# EAGLE library part BQ51013B-20VQFN (library BB8)
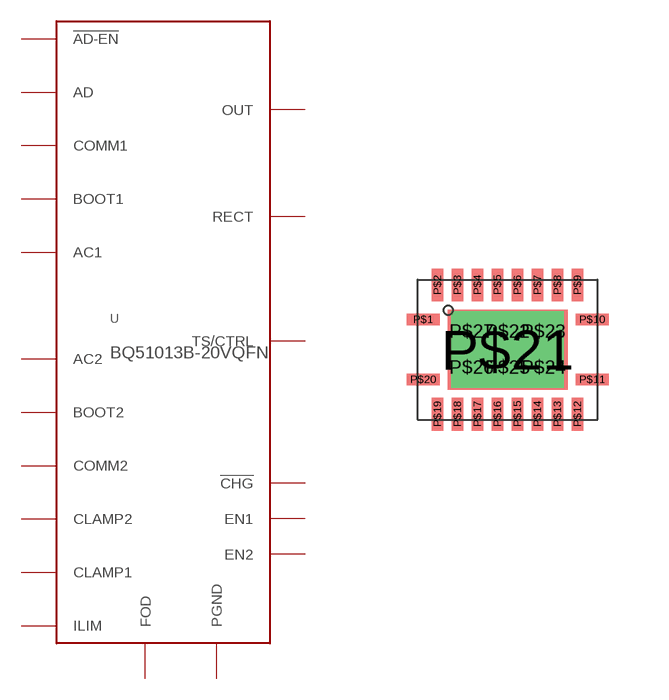
[diagram p9: symbol with the pads of 20-VQFN; footprint 20-VQFN]

Designator prefix U

## BQ51013B-20VQFN  [20-VQFN]
P$1  PGND
P$2  AC1
P$3  BOOT1
P$4  OUT
P$5  CLAMP1
P$6  COMM1
P$7  !CHG
P$8  !AD-EN
P$9  AD
P$10  EN1
P$11  EN2
P$12  ILIM
P$13  TS/CTRL
P$14  FOD
P$15  COMM2
P$16  CLAMP2
P$17  BOOT2
P$18  RECT
P$19  AC2
P$20  PGND
P$21  PGND
P$22  PGND
P$23  PGND
P$24  PGND
P$25  PGND
P$26  PGND
P$27  PGND

## Footprint 20-VQFN (pad centres in mm)
smd 0.825 x 0.28: P$1 -2.112,0.75; P$10 2.112,0.75; P$11 2.112,-0.75; P$20 -2.112,-0.75
smd 0.28 x 0.825: P$2 -1.75,1.613; P$3 -1.25,1.613; P$4 -0.75,1.613; P$5 -0.25,1.613; P$6 0.25,1.613; P$7 0.75,1.613; P$8 1.25,1.613; P$9 1.75,1.613; P$12 1.75,-1.613; P$13 1.25,-1.613; P$14 0.75,-1.613; P$15 0.25,-1.613; P$16 -0.25,-1.613; P$17 -0.75,-1.613; P$18 -1.25,-1.613; P$19 -1.75,-1.613
smd 3 x 2: P$21 0,0
drill 0.5 pad 0.9 square: P$22 0,0.45; P$23 0.9,0.45; P$24 0.9,-0.45; P$25 0,-0.45; P$26 -0.9,-0.45; P$27 -0.9,0.45